# Altium footprint library eciot-2.4G-PCB-ANT.PcbLib: 25 footprints (part 2 of 2)
Each footprint in its own frame and in the unit in brackets; x right, y up, seen from the top. Pads: shape width x height; smd on the part's side, far side on the other; paste and mask are expansions set on the pad; w line width, h text height; cw(c..) or ccw(c..) is an arc to the next point about the centre after c.
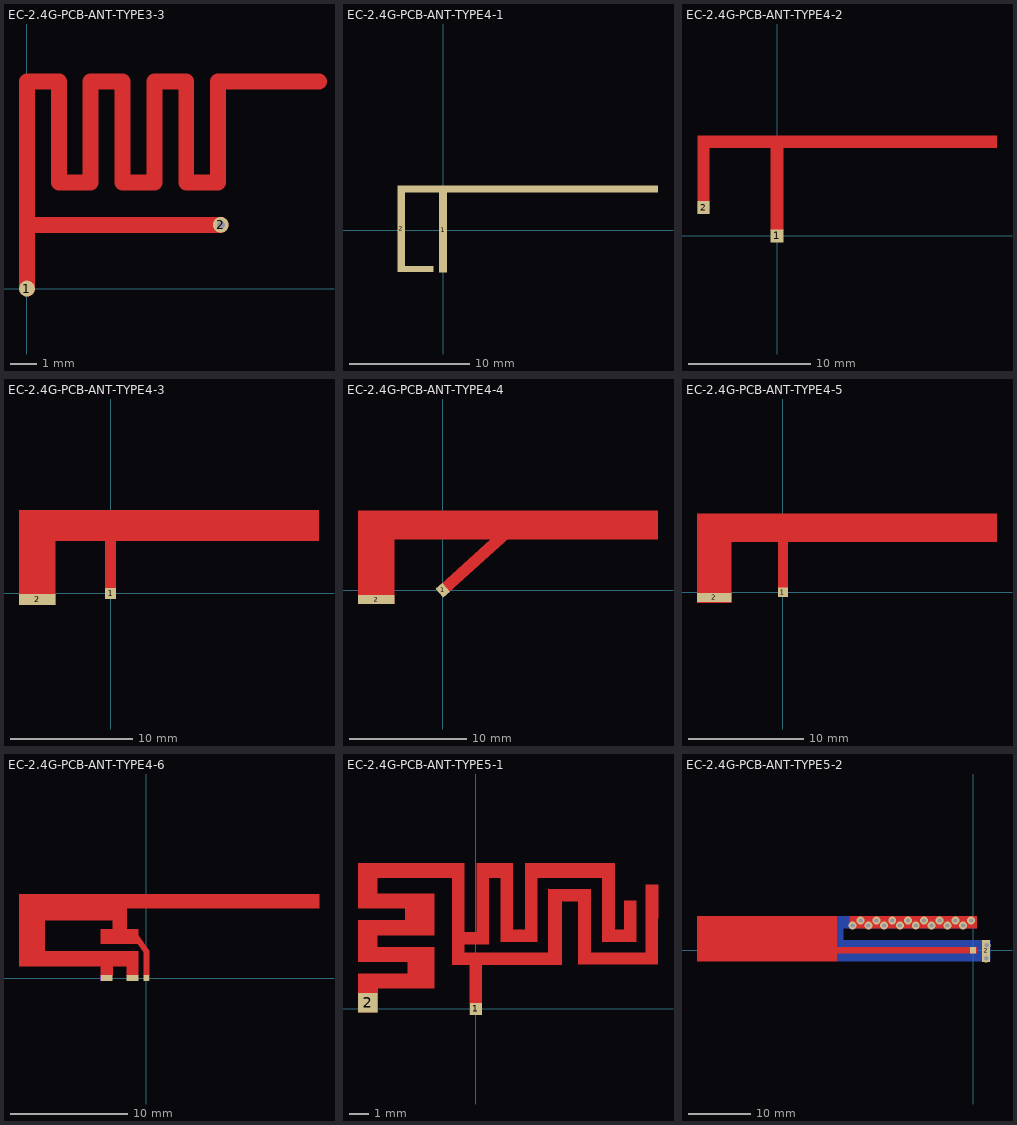
[diagram p1: the footprints below, top view; thin cyan lines are the x and y axes]

## EC-2.4G-PCB-ANT-TYPE3-3 [mm]
pads (2):
  round 0.6 smd: 1(0,0) 2(7.3,2.4)
via 7.3,2.4 diameter 0.5 hole 0.3
Top Layer:
  lines w0.6: 0,0 0,7.8 1.2,7.8 1.2,4 2.4,4 2.4,7.8 3.6,7.8 3.6,4 4.8,4 4.8,7.8 6,7.8 6,4 7.2,4 7.2,7.8 11,7.8 ; 0,2.4 7.3,2.4
Top Solder:
  lines w0.8: 0,0 0,7.8 1.2,7.8 1.2,4 2.4,4 2.4,7.8 3.6,7.8 3.6,4 4.8,4 4.8,7.8 6,7.8 6,4 7.2,4 7.2,7.8 11,7.8 ; 0,2.4 7.3,2.4

## EC-2.4G-PCB-ANT-TYPE4-1 [mm]
pads (4):
  rect 0.65x7 smd: 1(0,0)
  rect 0.64x7.2 smd: 2(-3.487,0.137)
  rect 3x0.5 smd: 2(-2.311,-3.226)
  rect 21.7x0.6 smd: 2(7.037,3.437)

## EC-2.4G-PCB-ANT-TYPE4-2 [mil]
pads (2):
  rect 42x42 smd: 1(0,0)
  rect 39.37x42 smd: 2(-237,90.98)
Top Layer:
  rectangle: -256.68,70 -217.31,322.95
  rectangle: -21,15 21,322.95
  rectangle: -256.69,283.58 707.88,322.95

## EC-2.4G-PCB-ANT-TYPE4-3 [mil]
pads (2):
  rect 34x34 smd: 1(0,0)
  rect 118.11x34 smd: 2(-235.24,-19.25)
Top Layer:
  region: -176.18,267.86 -294.29,267.86 -294.29,-36.28 -176.18,-36.28
  region: 17,267.86 -17,267.86 -17,0.14 17,0.14
  region: 670.28,267.86 -294.29,267.86 -294.29,169.43 670.28,169.43

## EC-2.4G-PCB-ANT-TYPE4-4 [mil]
pads (2):
  rect 39.37x30 smd rot 132: 1(0,0)
  rect 122.01x30 smd: 2(-223,-30.98)
Top Layer:
  region: 224.37,175.37 197.91,204.76 -6.34,20.86 20.12,-8.53
  region: 720.65,267.8 -283.29,267.8 -283.29,169.37 720.65,169.37
  region: -162,268 -284,268 -284,-46 -162,-46

## EC-2.4G-PCB-ANT-TYPE4-5 [mm]
pads (2):
  rect 0.85x0.8 smd: 1(0,0)
  rect 3x0.8 smd: 2(-5.974,-0.438)
Top Layer:
  rectangle: -0.424,0 0.426,5.558
  rectangle: -7.474,4.369 18.626,6.869
  rectangle: -7.473,-0.94 -4.473,6.86
  lines w0.254: -5.974,0.327 -5.974,0.569

## EC-2.4G-PCB-ANT-TYPE4-6 [mm]
pads (3):
  rect 0.46x0.5 smd: 1(0,0)
  rect 1x0.5 smd: 2(-3.38,0) 2(-1.18,0)
Top Layer:
  region: -10.86,0.99 -10.86,7.16 14.72,7.16 14.72,5.95 -1.68,5.95 -1.68,4.15 -0.68,4.15 -0.68,3.648 0.23,2.328 0.23,0.25 -0.23,0.25 -0.23,2.185 -0.751,2.94 -3.88,2.94 -3.88,4.15 -2.88,4.15 -2.88,4.95 -8.68,4.95 -8.68,2.28 -0.68,2.28 -0.68,0.25 -1.68,0.25 -1.68,0.99 -2.88,0.99 -2.88,0.25 -3.88,0.25 -3.88,0.99
Mechanical 11:
  text "1" at -0.08,0 h0.2
  text "2" at -1.26,0 h0.2
  text "3" at -3.46,0 h0.2
Mechanical 16:
  lines w0.025: -3.88,-0.25 -3.88,0.25 ; 0.23,-0.25 0.23,0.25
  text "MICHAL BLACHUCKI" at -10.645,1.507 h0.2
  text "ROBERT MITAL" at -10.645,1.907 h0.2
  text "2011-09-19" at -10.645,1.157 h0.2

## EC-2.4G-PCB-ANT-TYPE5-1 [mm]
pads (2):
  rect 0.63x0.63 smd: 1(0,0)
  rect 1.02x1.02 smd: 2(-5.675,0.325)
Top Layer:
  region: 2.575,7.655 7.275,7.655
  region: 0.035,7.655 1.935,7.655
  region: -6.195,7.655 -0.605,7.655
  region: 2.575,6.895 2.575,7.655 7.275,7.655 7.275,6.895
  region: 0.035,6.895 0.035,7.655 1.935,7.655 1.935,6.895
  region: -6.195,6.895 -6.195,7.655 -0.605,7.655 -0.605,6.895
  region: 6.635,4.165 6.635,6.895 7.275,6.895 7.275,4.165
  region: 2.575,6.895 6.635,6.895 3.205,6.895
  region: 1.305,4.165 1.305,6.895 1.935,6.895 1.935,4.165
  region: 0.035,6.895 1.305,6.895 0.665,6.895
  region: -1.235,4.035 -1.235,6.895 -0.605,6.895 -0.605,4.035
  region: -6.195,6.895 -1.235,6.895 -5.175,6.895
  region: 2.575,4.165 2.575,6.895 3.205,6.895 3.205,4.165
  region: 0.035,4.035 0.035,6.895 0.665,6.895 0.665,4.035
  region: -6.195,6.035 -6.195,6.895 -5.175,6.895 -5.175,6.035
  region: 8.915,6.525 9.555,6.525
  region: 8.915,2.955 8.915,6.525 9.555,6.525 9.555,2.955
  region: 3.805,6.295 6.025,6.295
  region: 3.805,5.645 3.805,6.295 6.025,6.295 6.025,5.645
  region: -6.195,6.035 -5.175,6.035 -2.195,6.035
  region: -6.195,5.275 -6.195,6.035 -2.195,6.035 -2.195,5.275
  region: 7.775,5.685 8.415,5.685
  region: 7.775,4.165 7.775,5.685 8.415,5.685 8.415,4.165
  region: 5.375,2.955 5.375,5.645 6.025,5.645 6.025,2.955
  region: 3.805,5.645 5.375,5.645 4.505,5.645
  region: 3.805,2.955 3.805,5.645 4.505,5.645 4.505,2.955
  region: -3.715,5.275 -6.195,5.275 -2.195,5.275
  region: -3.715,4.645 -3.715,5.275 -2.195,5.275 -2.195,4.645
  region: -6.195,4.645 -3.715,4.645 -2.195,4.645
  region: -6.195,3.875 -6.195,4.645 -2.195,4.645 -2.195,3.875
  region: 7.275,4.165 7.775,4.165 8.415,4.165
  region: 1.935,4.165 2.575,4.165 3.205,4.165
  region: 6.635,3.525 6.635,4.165 8.415,4.165 8.415,3.525
  region: 1.305,3.525 1.305,4.165 3.205,4.165 3.205,3.525
  region: -0.605,4.035 0.035,4.035 0.665,4.035
  region: -1.235,3.395 -1.235,4.035 0.665,4.035 0.665,3.395
  region: -6.195,3.875 -2.195,3.875 -5.175,3.875
  region: -6.195,3.245 -6.195,3.875 -5.175,3.875 -5.175,3.245
  region: 8.415,3.525 6.635,3.525
  region: 3.205,3.525 1.305,3.525
  region: -1.235,3.395 0.665,3.395 -0.605,3.395
  region: -1.235,2.955 -1.235,3.395 -0.605,3.395 -0.605,2.955
  region: -6.195,3.245 -5.175,3.245 -2.195,3.245
  region: -6.195,2.475 -6.195,3.245 -2.195,3.245 -2.195,2.475
  region: 6.025,2.955 8.915,2.955 9.555,2.955
  region: -0.605,2.955 3.805,2.955 4.505,2.955
  region: 5.375,2.335 5.375,2.955 9.555,2.955 9.555,2.335
  region: -1.235,2.315 -1.235,2.955 4.505,2.955 4.505,2.315
  region: -3.585,2.475 -6.195,2.475 -2.195,2.475
  region: -3.585,1.845 -3.585,2.475 -2.195,2.475 -2.195,1.845
  region: 9.555,2.335 5.375,2.335
  region: -0.315,2.315 -1.235,2.315 4.505,2.315
  region: -0.315,2.315 4.505,2.315 0.315,2.315
  region: -6.185,1.845 -3.585,1.845 -2.195,1.845
  region: -6.185,1.085 -6.185,1.845 -2.195,1.845 -2.195,1.085
  region: -6.185,1.085 -2.195,1.085 -5.165,1.085
  region: -6.185,-0.185 -6.185,1.085 -5.165,1.085 -5.165,-0.185
  region: -0.315,-0.315 -0.315,2.315 0.315,2.315 0.315,-0.315

## EC-2.4G-PCB-ANT-TYPE5-2 [mm]
pads (2):
  rect 1x1 smd: 1(0,0)
  rect 1.3x3.5 smd: 2(2.1,-0.1)
via 2.2,0.8 diameter 1.27 hole 0.711
via 2.1,-1.3 diameter 1.27 hole 0.711
via -0.3,4.8 diameter 1.27 hole 0.711
via -2.84,4.8 diameter 1.27 hole 0.711
via -5.38,4.8 diameter 1.27 hole 0.711
via -7.92,4.8 diameter 1.27 hole 0.711
via -10.46,4.8 diameter 1.27 hole 0.711
via -13,4.8 diameter 1.27 hole 0.711
via -15.54,4.8 diameter 1.27 hole 0.711
via -18.08,4.8 diameter 1.27 hole 0.711
via -19.38,4 diameter 1.27 hole 0.711
via -16.84,4 diameter 1.27 hole 0.711
via -14.3,4 diameter 1.27 hole 0.711
via -11.76,4 diameter 1.27 hole 0.711
via -9.22,4 diameter 1.27 hole 0.711
via -6.68,4 diameter 1.27 hole 0.711
via -4.14,4 diameter 1.27 hole 0.711
via -1.6,4 diameter 1.27 hole 0.711
Top Layer:
  region: -21.9,5.5 -44.4,5.5 -44.4,-1.8 -21.9,-1.8
  region: 0.6,0.5 -25.225,0.5 -25.225,-0.5 0.6,-0.5
  region: 0.6,5.5 -19.9,5.5 -19.9,3.5 0.6,3.5
Bottom Layer:
  region: 2.8,1.7 -21.9,1.7 -21.9,-1.8 2.8,-1.8
  region: -20.8,5.5 -21.9,5.5 -21.9,1.2 -20.8,1.2
  region: 0.6,5.5 -20.8,5.5 -20.8,3.5 0.6,3.5